# Altium schematic symbol library Resistors Ceramic SMD 1005.SchLib: 2 symbols
Pins are listed as number, name and electrical type; pins without a type are passive.

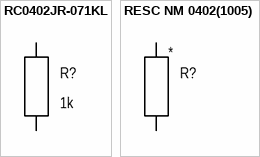
[diagram p0: symbols RC0402JR-071KL to RESC NM 0402(1005)]

## RC0402JR-071KL
designator R?, comment 1k
RESC 1k 0402(1005); Manufacturer: Yageo; Part name: RC0402JR-071KL; Group: Discrete; Temperature coefficient: ±100ppm/°C; Tolerance: ±5%; Power: 0.063W; Component: Resistor Ceramic; Type: Thin film; Package: 0402 (1005); Resistance: 1k; Dimension: 1.00mm x 0.50mm; Height: 0.4mm; Operating temperature: -55°C +155°C; Mounting type: Surface mount
footprint RESC1005N (Chip Resistor, Body 1.0x0.5mm, IPC High Density)
footprint RESC1005M (Chip Resistor, Body 1.0x0.5mm, IPC High Density)
footprint RESC1005L (Chip Resistor, Body 1.0x0.5mm, IPC High Density)
pins: 1, 2

## RESC NM 0402(1005)
designator R?  (no BOM)
RESC NM 0402(1005); Group: Discrete; Component: Resistor Ceramic; Package: 0402 (1005); Dimension: 1.00mm x 0.50mm; Thickness: 0.40mm; Mounting type: Surface mount (Not mounted)
footprint RESC1005N_NM (Chip Resistor, Body 1.0x0.5mm, IPC High Density)
footprint RESC1005M_NM (Chip Resistor, Body 1.0x0.5mm, IPC High Density)
footprint RESC1005L_NM (Chip Resistor, Body 1.0x0.5mm, IPC High Density)
pins: 1, 2